# Altium integrated library SG732ETTD332M.IntLib: 1 symbol
Pins are listed as number, name and electrical type; pins without a type are passive.

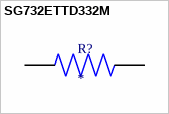
[diagram p0: symbol SG732ETTD332M]

## SG732ETTD332M
designator R?
MP: SG732ETTD332M; Package: None; Price: None; Value: *; Availability: Unavailable
footprint RESC3226X70N
pins: 1, 2